# Altium schematic symbol library oscillator.SchLib: 1 symbol
Pins are listed as number, name and electrical type; pins without a type are passive.

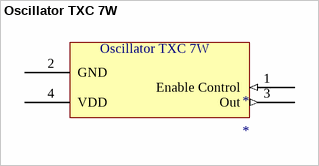
[diagram p0: symbol Oscillator TXC 7W]

## Oscillator TXC 7W
designator *
footprint TXC - 7W-60.000MBB-T
pins: 1 Enable Control (in), 2 GND (power), 3 Out (out), 4 VDD (power)